# Altium footprint library Diode_Rectifier_Pcb.PcbLib: 4 footprints
Each footprint in its own frame and in the unit in brackets; x right, y up, seen from the top. Pads: shape width x height; smd on the part's side, far side on the other; paste and mask are expansions set on the pad; w line width, h text height; cw(c..) or ccw(c..) is an arc to the next point about the centre after c.
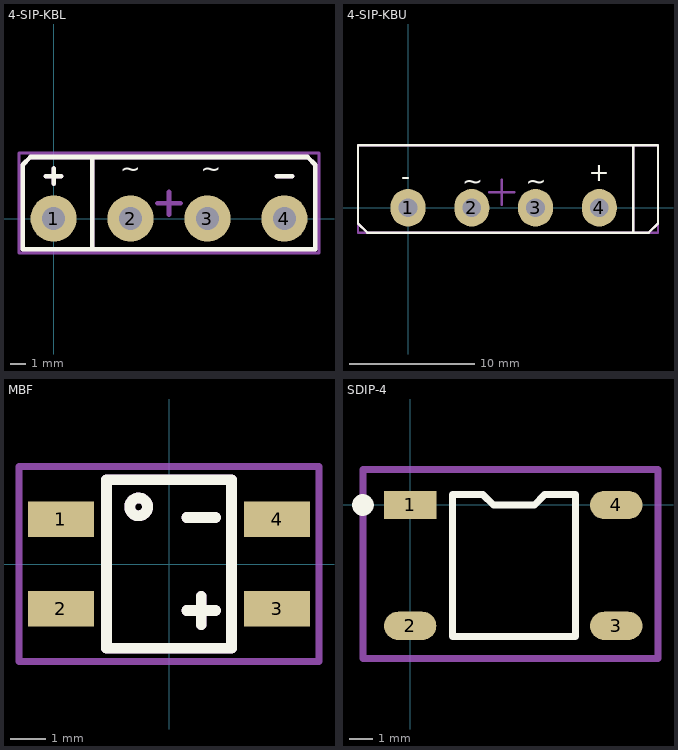
[diagram p0: the footprints below, top view; thin cyan lines are the x and y axes]

## 4-SIP-KBL [mm]
pads (4):
  round 3 hole 1.5: 1(0,0) 2(5,0) 3(10,0) 4(15,0)
Top Overlay:
  lines w0.3: -0.5,2.75 0.5,2.75 ; 0,2.25 0,3.25 ; 2.5,-2 2.5,4 ; 14.5,2.75 15.5,2.75 ; -2,-2 -2,3.5 -1.5,4 16.5,4 17,3.5 17,-2 -2,-2
  text "~" at 5.664,4.091 h2
  text "~" at 10.888,4.091 h2
Mechanical 13:
  lines w0.3: -0.5,2.75 0.5,2.75 ; 0,2.25 0,3.25 ; 2.5,-2 2.5,4 ; 14.5,2.75 15.5,2.75 ; -2,-2 -2,3.5 -1.5,4 16.5,4 17,3.5 17,-2 -2,-2
  text ".designator" at 3.025,-2.03 h1.5
  text "~" at 5.664,4.091 h2
  text "~" at 10.888,4.091 h2
Mechanical 15:
  lines w0.2: -2.25,-2.25 17.25,-2.25 17.25,4.25 -2.25,4.25 -2.25,-2.25
  lines w0.3: 6.75,1 8.25,1 ; 7.5,0.25 7.5,1.75
3D body "KBL40XX_long_leg.step": height 15.81, standoff -13.31, extent -2,-2.16 17,4.15

## 4-SIP-KBU [mm]
pads (4):
  oval 2.8x3 hole 1.5: 1(0,0) 2(5.1,0) 3(10.2,0) 4(15.3,0)
Top Overlay:
  lines w0.2: 18,-2 18,5 ; -4,-1.25 -4,5 20,5 20,-1.25 19.25,-2 -3.25,-2 -4,-1.25
  text "~" at 9.42,0.972 h2.5
  text "+" at 14.44,1.627 h2.5
  text "-" at -0.547,1.32 h2.5
  text "~" at 4.32,0.972 h2.5
Mechanical 13:
  lines w0.2: 18,-2 18,5 ; -4,-1.25 -4,5 20,5 20,-1.25 19.25,-2 -3.25,-2 -4,-1.25
  text ".designator" at 3.724,2.779 h1.5
  text "~" at 9.42,0.972 h2.5
  text "+" at 14.44,1.627 h2.5
  text "-" at -0.547,1.32 h2.5
  text "~" at 4.32,0.972 h2.5
Mechanical 15:
  lines w0.2: 6.5,1.25 8.5,1.25 ; 7.5,0.25 7.5,2.25 ; -4,-2 20,-2 20,5 -4,5 -4,-2
3D body "KBU80X.step": height 19.81, standoff -7.99, extent -3.85,-1.91 19.85,4.8

## MBF [mm]
pads (4):
  rect 1.85x1 smd: 1(-3.025,1.25) 2(-3.025,-1.25) 3(3.025,-1.25) 4(3.025,1.25)
Top Overlay:
  circle w0.3: c-0.85,1.6 r0.25
  lines w0.3: 0.5,-1.3 1.3,-1.3 ; 0.5,1.3 1.3,1.3 ; 0.9,-1.7 0.9,-0.9 ; -1.75,-2.362 1.75,-2.362 1.75,2.362 -1.75,2.362 -1.75,-2.362
Mechanical 13:
  circle w0.3: c-0.85,1.6 r0.25
  lines w0.3: 0.5,-1.3 1.3,-1.3 ; 0.5,1.3 1.3,1.3 ; 0.9,-1.7 0.9,-0.9 ; -1.75,-2.362 1.75,-2.362 1.75,2.362 -1.75,2.362 -1.75,-2.362
  text ".designator" at -2.076,2.579 h1.5
Mechanical 15:
  lines w0.2: -4.2,-2.725 4.2,-2.725 4.2,2.725 -4.2,2.725 -4.2,-2.725
3D body "MB10F-10_R2_00001.stp": height 1.6, standoff 0, extent -3.5,-2.362 3.5,2.362

## SDIP-4 [mm]
pads (4):
  rect 2.22x1.2 smd: 1(0,0)
  oval 2.22x1.2 smd: 2(0,-5.12) 3(8.73,-5.12) 4(8.73,0)
Top Overlay:
  circle w0.5: c-2,0 r0.209
  lines w0.3: 1.79,-5.564 1.79,0.436 3.093,0.436 3.529,0 5.262,0 5.698,0.436 7,0.436 7,-5.564 1.79,-5.564
Mechanical 13:
  lines w0.3: -2,-6.5 10.5,-6.5 10.5,1.5 -2,1.5 -2,-6.5
  text ".designator" at 2.724,-3.321 h1.5
Mechanical 15:
  lines w0.3: -2,-6.5 10.5,-6.5 10.5,1.5 -2,1.5 -2,-6.5
3D body "SDIP-1.step": height 2.94, standoff 0.01, extent -0.6,-6.8 9.4,1.7